# Altium footprint library BLDC_PCB_LIB.PcbLib: 23 footprints (part 1 of 2)
Each footprint in its own frame and in the unit in brackets; x right, y up, seen from the top. Pads: shape width x height; smd on the part's side, far side on the other; paste and mask are expansions set on the pad; w line width, h text height; cw(c..) or ccw(c..) is an arc to the next point about the centre after c.
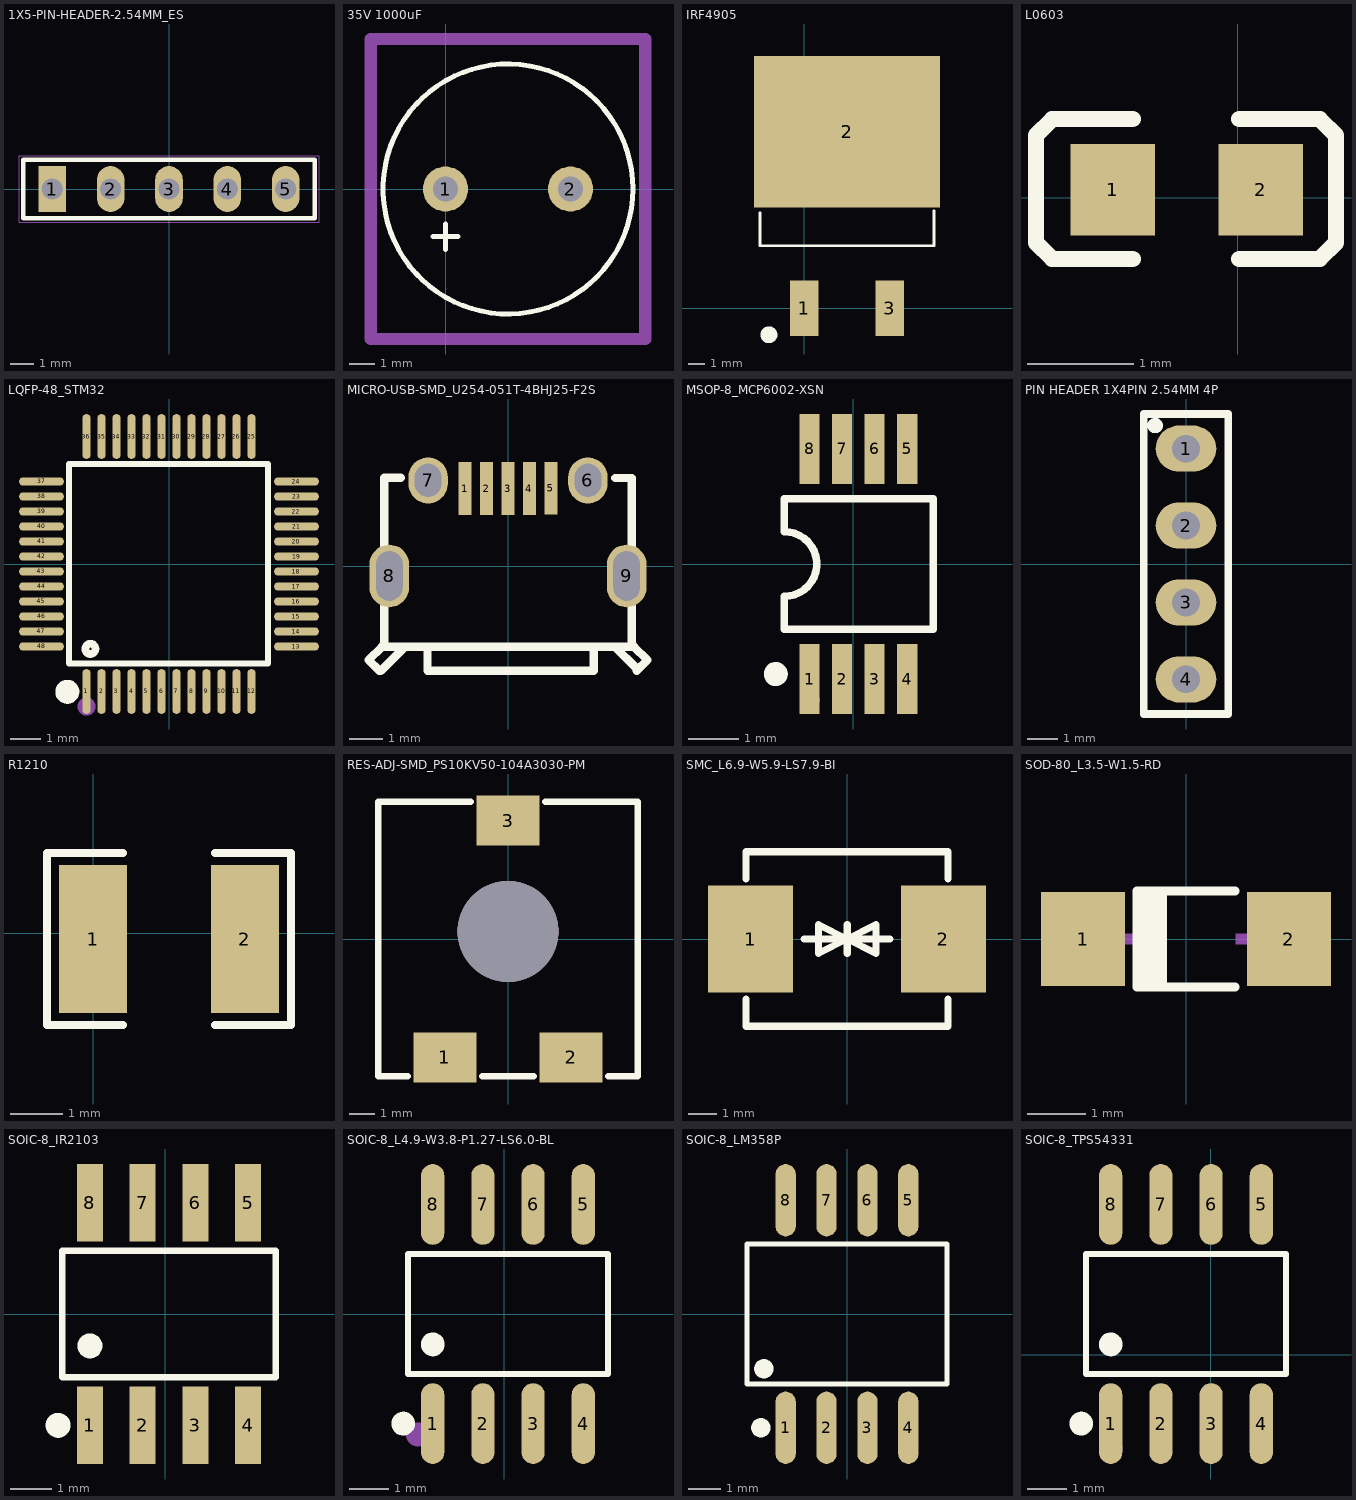
[diagram p0: the footprints below, top view; thin cyan lines are the x and y axes]

## 1X5-PIN-HEADER-2.54MM_ES [mm]
pads (5):
  rect 1.2x2 hole 0.9 slot 0.9 at 90 deg paste+0 mask+0.102: 1(-5.08,0)
  oval 1.2x2 hole 0.9 slot 0.9 at 90 deg paste+0 mask+0.102: 2(-2.54,0) 3(0,0) 4(2.54,0) 5(5.08,0)
Top Overlay:
  lines w0.203: -6.35,-1.27 6.35,-1.27 6.35,1.27 -6.35,1.27 -6.35,-1.27
Mechanical 1:
  lines w0.05: -5.334,0 -4.826,0 ; -5.08,-0.254 -5.08,0.254 ; -6.528,-1.448 6.528,-1.448 6.528,1.448 -6.528,1.448 -6.528,-1.448

## 35V 1000uF [mm]
pads (2):
  round 1.8 hole 1: 1(0,0) 2(5,0)
Top Overlay:
  circle w0.2: c2.5,0 r5
  lines w0.2: -0.508,-1.905 0.508,-1.905 ; 0,-2.413 0,-1.397
Mechanical 15:
  lines w0.5: -3,-6 -3,6 8,6 8,-6 -3,-6
3D body "User Library-Cap-EL(10x20-5).STEP": height 20, standoff -3.3, extent -2.5,-5 7.502,5

## IRF4905 [mm]
pads (3):
  rect 1.7x3.3 smd paste+0 mask+0.051: 1(0,0) 3(5.08,0)
  rect 11x9 smd paste+0 mask+0.051: 2(2.54,10.472)
Top Overlay:
  circle w0.5: c-2.09,-1.564 r0.25
  lines w0.152: -2.616,5.679 -2.616,3.705 7.696,3.705 7.696,5.779
3D body "IRF3205SPBF.stp": height 4.07, standoff -0.1, extent -2.324,-1.177 7.326,14.703

## L0603 [mm]
pads (2):
  rect 0.8x0.864 smd paste-100 mask+0.051: 1(-1.182,0.073) 2(0.218,0.073)
Top Overlay:
  lines w0.152: -0.992,-0.578 -1.754,-0.578 -1.906,-0.426 -1.906,0.59 -1.754,0.743 -0.992,0.743 ; 0.014,-0.578 0.776,-0.578 0.929,-0.426 0.929,0.59 0.776,0.743 0.014,0.743
Top Paste:
  region: -0.734,0.216 -0.734,-0.061 -1.008,-0.354 -1.511,-0.354 -1.575,-0.29 -1.575,0.446 -1.511,0.51 -1.008,0.51
  region: -0.218,0.227 -0.218,-0.049 0.056,-0.343 0.559,-0.343 0.623,-0.279 0.623,0.457 0.559,0.521 0.056,0.521

## LQFP-48_STM32 [mm]
pads (48):
  oval 0.27x1.5 smd paste+0 mask+0.05: 1(-2.75,-4.25) 2(-2.25,-4.25) 3(-1.75,-4.25) 4(-1.25,-4.25) 5(-0.75,-4.25) 6(-0.25,-4.25) 7(0.25,-4.25) 8(0.75,-4.25) 9(1.25,-4.25) 10(1.75,-4.25) 11(2.25,-4.25) 12(2.75,-4.25) 25(2.75,4.25) 26(2.25,4.25) 27(1.75,4.25) 28(1.25,4.25) 29(0.75,4.25) 30(0.25,4.25) 31(-0.25,4.25) 32(-0.75,4.25) 33(-1.25,4.25) 34(-1.75,4.25) 35(-2.25,4.25) 36(-2.75,4.25)
  oval 1.5x0.27 smd paste+0 mask+0.05: 13(4.25,-2.75) 14(4.25,-2.25) 15(4.25,-1.75) 16(4.25,-1.25) 17(4.25,-0.75) 18(4.25,-0.25) 19(4.25,0.25) 20(4.25,0.75) 21(4.25,1.25) 22(4.25,1.75) 23(4.25,2.25) 24(4.25,2.75) 37(-4.25,2.75) 38(-4.25,2.25) 39(-4.25,1.75) 40(-4.25,1.25) 41(-4.25,0.75) 42(-4.25,0.25) 43(-4.25,-0.25) 44(-4.25,-0.75) 45(-4.25,-1.25) 46(-4.25,-1.75) 47(-4.25,-2.25) 48(-4.25,-2.75)
Top Overlay:
  circle w0.254: c-2.62,-2.83 r0.17
  lines w0.2: -2.896,3.34 3.302,3.34 3.302,-3.315 -3.327,-3.315 -3.327,3.34 -2.565,3.34
  lines w0.4: -3.39,-4.06 ccw(c-3.389,-4.26) -3.387,-4.06
Mechanical 15:
  circle w0.3: c-2.75,-4.75 r0.15

## MICRO-USB-SMD_U254-051T-4BHJ25-F2S [mm]
pads (9):
  rect 0.4x1.6 smd paste-100 mask+0.051: 1(-1.3,2.351) 2(-0.65,2.351) 3(0,2.351) 4(0.65,2.351) 5(1.3,2.359)
  oval 1.2x1.4 hole 0.8 slot 1 at 90 deg paste+0 mask+0.051: 6(2.425,2.601) 7(-2.425,2.601)
  oval 1.2x1.9 hole 0.8 slot 1.5 at 90 deg paste+0 mask+0.051: 8(-3.6,-0.299) 9(3.6,-0.299)
Top Overlay:
  lines w0.254: -3.25,2.676 -3.75,2.676 -3.75,-2.449 ; -3.131,-2.449 -3.856,-3.174 -3.9,-3.174 -4.225,-2.849 -3.825,-2.449 -3.75,-2.449 ; -2.442,-2.449 -2.442,-3.174 2.6,-3.174 2.6,-2.449 ; 3.25,-2.449 3.9,-3.099 3.9,-3.174 4.225,-2.849 3.825,-2.449 3.75,-2.449 ; 3.25,2.671 3.75,2.671 3.75,-2.449 ; -3.75,-2.449 3.75,-2.449
Top Paste:
  drawing of 9 lines, arcs and shapes, not listed

## MSOP-8_MCP6002-XSN [mil]
pads (8):
  rect 15.98x55 smd paste+0 mask+2: 1(-34.55,-90.56) 2(-8.96,-90.56) 3(16.64,-90.55) 4(42.23,-90.55) 5(42.23,90.55) 6(16.64,90.56) 7(-8.96,90.55) 8(-34.55,90.55)
Top Overlay:
  circle w9.45: c-61.12,-86.61 r4.72
  lines w5.91: -54.37,-51.18 62.89,-51.18 62.89,51.18 -54.37,51.18 -54.37,25.5 cw(c-54.37,0) -54.37,-25.5 -54.37,-51.18
Mechanical 15:
  circle w7.87: c-34.35,-107.09 r3.94

## PIN HEADER 1X4PIN 2.54MM 4P [mil]
pads (4):
  oval 78.74x60 hole 36 paste+0 mask+2: 1(0,150) 2(0,50) 3(0,-50) 4(0,-150)
Top Overlay:
  circle w10: c-40,180 r5
  lines w10: -55,-195 55,-195 55,195 -55,195 -55,-195

## R1210 [mm]
pads (2):
  rect 1.283x2.808 smd paste-100 mask+0.051: 1(-0.006,-0.113) 2(2.877,-0.113)
Top Overlay:
  lines w0.152: 0.559,-1.746 -0.876,-1.746 -0.876,1.52 0.559,1.52 ; 2.311,-1.746 3.746,-1.746 3.746,1.52 2.311,1.52
Top Paste:
  region: 2.235,-1.417 2.235,-0.69 2.335,-0.59 2.571,-0.59 2.671,-0.49 2.671,0.264 2.571,0.364 2.335,0.364 2.235,0.464 2.235,1.191 2.335,1.291 3.418,1.291 3.518,1.191 3.518,-1.417 3.418,-1.517 2.335,-1.517
  region: 0.635,-1.417 0.635,-0.69 0.535,-0.59 0.299,-0.59 0.199,-0.49 0.199,0.264 0.299,0.364 0.535,0.364 0.635,0.464 0.635,1.191 0.535,1.291 -0.547,1.291 -0.647,1.191 -0.647,-1.417 -0.547,-1.517 0.535,-1.517

## RES-ADJ-SMD_PS10KV50-104A3030-PM [mm]
pads (4):
  rect 2.5x2 smd paste+0 mask+0.051: 1(-2.5,-4.7) 2(2.5,-4.7) 3(0,4.7)
  round 4 hole 4 unplated paste+0: ""(0,0.3)
Top Overlay:
  lines w0.254: -3.981,-5.45 -5.15,-5.45 -5.15,5.45 -1.481,5.45 ; -1.019,-5.45 1.019,-5.45 ; 1.481,5.45 5.15,5.45 5.15,-5.45 3.981,-5.45
Mechanical 15:
  circle w2: c0,0.3 r1

## SMC_L6.9-W5.9-LS7.9-BI [mm]
pads (2):
  rect 3.03x3.82 smd paste+0 mask+0.051: 1(-3.435,0) 2(3.435,0)
Top Overlay:
  lines w0.254: -3.6,-2.141 -3.6,-3.11 3.6,-3.11 3.6,-2.141 ; -3.6,2.141 -3.6,3.11 3.6,3.11 3.6,2.141 ; -1.524,0 0.508,0 ; -0.496,0 1.536,0 ; 0,-0.508 0,0.508 0,0 ; 0.012,0.508 0.012,-0.508 0.012,0 ; 0,0 -1.016,0.508 -1.016,-0.508 0,0 ; 0.012,0 1.028,0.508 1.028,-0.508 0.012,0

## SOD-80_L3.5-W1.5-RD [mm]
pads (2):
  rect 1.44x1.62 smd paste+0 mask+0.051: 1(-1.765,0) 2(1.765,0)
Top Overlay:
  region: -0.842,0.801 -0.334,0.801 -0.334,-0.801 -0.842,-0.801
  lines w0.152: 0.842,-0.826 -0.842,-0.826 -0.842,0.826 0.842,0.826
Mechanical 15:
  region: -1.57,-0.09 -1.57,0.09 -0.85,0.09 -0.85,-0.09
  region: 1.57,-0.09 1.57,0.09 0.85,0.09 0.85,-0.09
  region: 1.3,-0.6 1.3,0.6 1.12,0.6 1.12,-0.6

## SOIC-8_IR2103 [mm]
pads (8):
  rect 0.63x1.865 smd paste+0 mask+0.051: 1(-1.82,-2.682) 2(-0.55,-2.682) 3(0.72,-2.682) 4(1.99,-2.682) 5(1.99,2.682) 6(0.72,2.682) 7(-0.55,2.682) 8(-1.82,2.682)
Top Overlay:
  circle w0.3: c-1.82,-0.769 r0.15
  circle w0.3: c-2.587,-2.682 r0.15
  lines w0.152: -2.491,-1.521 -2.491,1.521 2.661,1.521 2.661,-1.521 -2.491,-1.521
Mechanical 15:
  circle w0.3: c-1.82,-2.682 r0.15

## SOIC-8_L4.9-W3.8-P1.27-LS6.0-BL [mm]
pads (8):
  oval 0.588x2.045 smd paste+0 mask+0.051: 1(-1.805,-2.773) 2(-0.535,-2.773) 3(0.735,-2.773) 4(2.005,-2.773) 5(2.005,2.773) 6(0.735,2.773) 7(-0.535,2.773) 8(-1.805,2.773)
Top Overlay:
  circle w0.3: c-2.552,-2.772 r0.15
  circle w0.3: c-1.805,-0.769 r0.15
  lines w0.152: -2.427,-1.521 -2.427,1.521 2.626,1.521 2.626,-1.521 -2.427,-1.521
Mechanical 15:
  circle w0.3: c-2.186,-3.048 r0.15

## SOIC-8_LM358P [mm]
pads (8):
  oval 0.63x2.25 smd paste+0 mask+0.051: 1(-1.905,-3.53) 2(-0.635,-3.53) 3(0.635,-3.53) 4(1.905,-3.53) 5(1.905,3.53) 6(0.635,3.53) 7(-0.635,3.53) 8(-1.905,3.53)
Top Overlay:
  circle w0.3: c-2.672,-3.53 r0.15
  circle w0.3: c-2.58,-1.7 r0.15
  lines w0.152: -3.099,-2.177 -2.639,-2.177 3.099,-2.177 3.099,2.177 -3.099,2.177 -3.099,-2.177
Mechanical 15:
  circle w0.3: c-1.9,-4.24 r0.15

## SOIC-8_TPS54331 [mm]
pads (8):
  oval 0.588x2.045 smd paste+0 mask+0.051: 1(-2.535,-1.748) 2(-1.265,-1.748) 3(0.005,-1.748) 4(1.275,-1.748) 5(1.275,3.797) 6(0.005,3.797) 7(-1.265,3.797) 8(-2.535,3.797)
Top Overlay:
  circle w0.3: c-2.535,0.256 r0.15
  circle w0.3: c-3.281,-1.748 r0.15
  lines w0.152: -3.156,-0.497 -3.156,2.546 1.897,2.546 1.897,-0.497 -3.156,-0.497
Mechanical 15:
  circle w0.3: c-2.535,-2.375 r0.15